# Altium schematic symbol library LoraNode_LIB.SchLib: 1 symbol
Pins are listed as number, name and electrical type; pins without a type are passive.

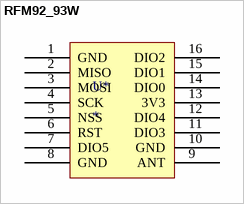
[diagram p0: symbol RFM92_93W]

## RFM92_93W
designator U*
footprint RFM92_93W
pins: 1 GND, 2 MISO, 3 MOSI, 4 SCK, 5 NSS, 6 RST, 7 DIO5, 8 GND, 9 ANT, 10 GND, 11 DIO3, 12 DIO4, 13 3V3, 14 DIO0, 15 DIO1, 16 DIO2